# Altium footprint library pg1350.PcbLib: 3 footprints
Each footprint in its own frame and in the unit in brackets; x right, y up, seen from the top. Pads: shape width x height; smd on the part's side, far side on the other; paste and mask are expansions set on the pad; w line width, h text height; cw(c..) or ccw(c..) is an arc to the next point about the centre after c.
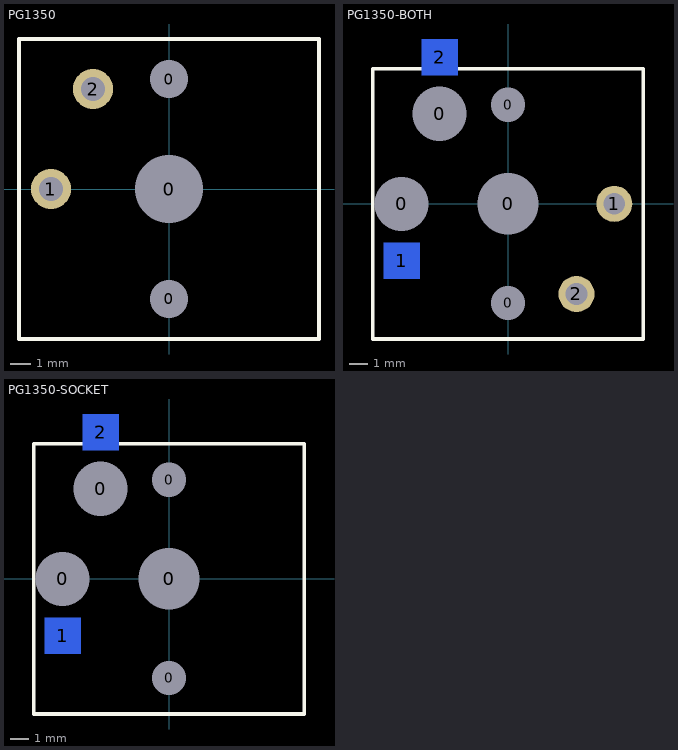
[diagram p0: the footprints below, top view; thin cyan lines are the x and y axes]

## PG1350 [mm]
height 7
pads (5):
  round 1 hole 1.9: 0(0,-5.5) 0(0,5.5)
  round 2 hole 3.4: 0(0,0)
  round 2 hole 1.2: 1(-5.9,0) 2(-3.8,5)
Top Overlay:
  lines w0.2: -7.5,-7.5 7.5,-7.5 7.5,7.5 -7.5,7.5 -7.5,-7.5
3D body "SW-PG1350.STEP": height 8.1, standoff -3, extent -7.5,-7.5 7.5,7.5

## PG1350-BOTH [mm]
height 7
pads (9):
  round 2 hole 3: 0(-5.9,0) 0(-3.8,5)
  round 1 hole 1.9: 0(0,-5.5) 0(0,5.5)
  round 2 hole 3.4: 0(0,0)
  rect 2x2 smd far side: 1(-5.9,-3.15) 2(-3.8,8.15)
  round 2 hole 1.2: 1(5.9,0) 2(3.8,-5)
Top Overlay:
  lines w0.2: -7.5,-7.5 -7.5,7.5 7.5,7.5 7.5,-7.5 -7.5,-7.5
3D body "SW-PG1350.STEP": height 8.1, standoff -3, extent -7.5,-7.5 7.5,7.5

## PG1350-SOCKET [mm]
height 7
pads (7):
  round 2 hole 3: 0(-5.9,0) 0(-3.8,5)
  round 1 hole 1.9: 0(0,-5.5) 0(0,5.5)
  round 2 hole 3.4: 0(0,0)
  rect 2x2 smd far side: 1(-5.9,-3.15) 2(-3.8,8.15)
Top Overlay:
  lines w0.2: -7.5,-7.5 7.5,-7.5 7.5,7.5 -7.5,7.5 -7.5,-7.5
3D body "SW-PG1350.STEP": height 8.1, standoff -3, extent -7.5,-7.5 7.5,7.5